# EAGLE library part MAXM1762* (library Maxim Integrated)
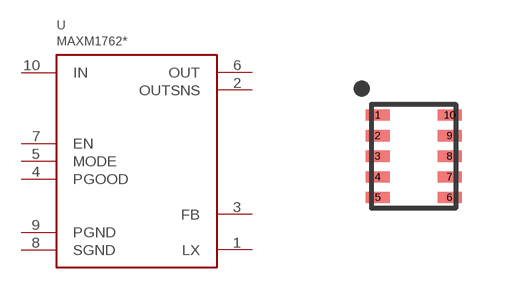
[diagram p9: symbol with the pads of USLIC10; footprint USLIC10]

Designator prefix U

## MAXM17625, MAXM17626  [USLIC10]
1  LX
2  OUTSNS
3  FB
4  PGOOD
5  MODE
6  OUT
7  EN
8  SGND
9  PGND
10  IN

## Footprint USLIC10 (pad centres in mm)
smd 0.6 x 0.28: 1 -0.9,1.03; 2 -0.9,0.515; 3 -0.9,0; 4 -0.9,-0.515; 5 -0.9,-1.03; 6 0.9,-1.03; 7 0.9,-0.515; 8 0.9,0; 9 0.9,0.515; 10 0.9,1.03